# Altium integrated library altera-stratix-iv.IntLib: 38 symbols (part 1 of 21)
Pins are listed as number, name and electrical type; pins without a type are passive.

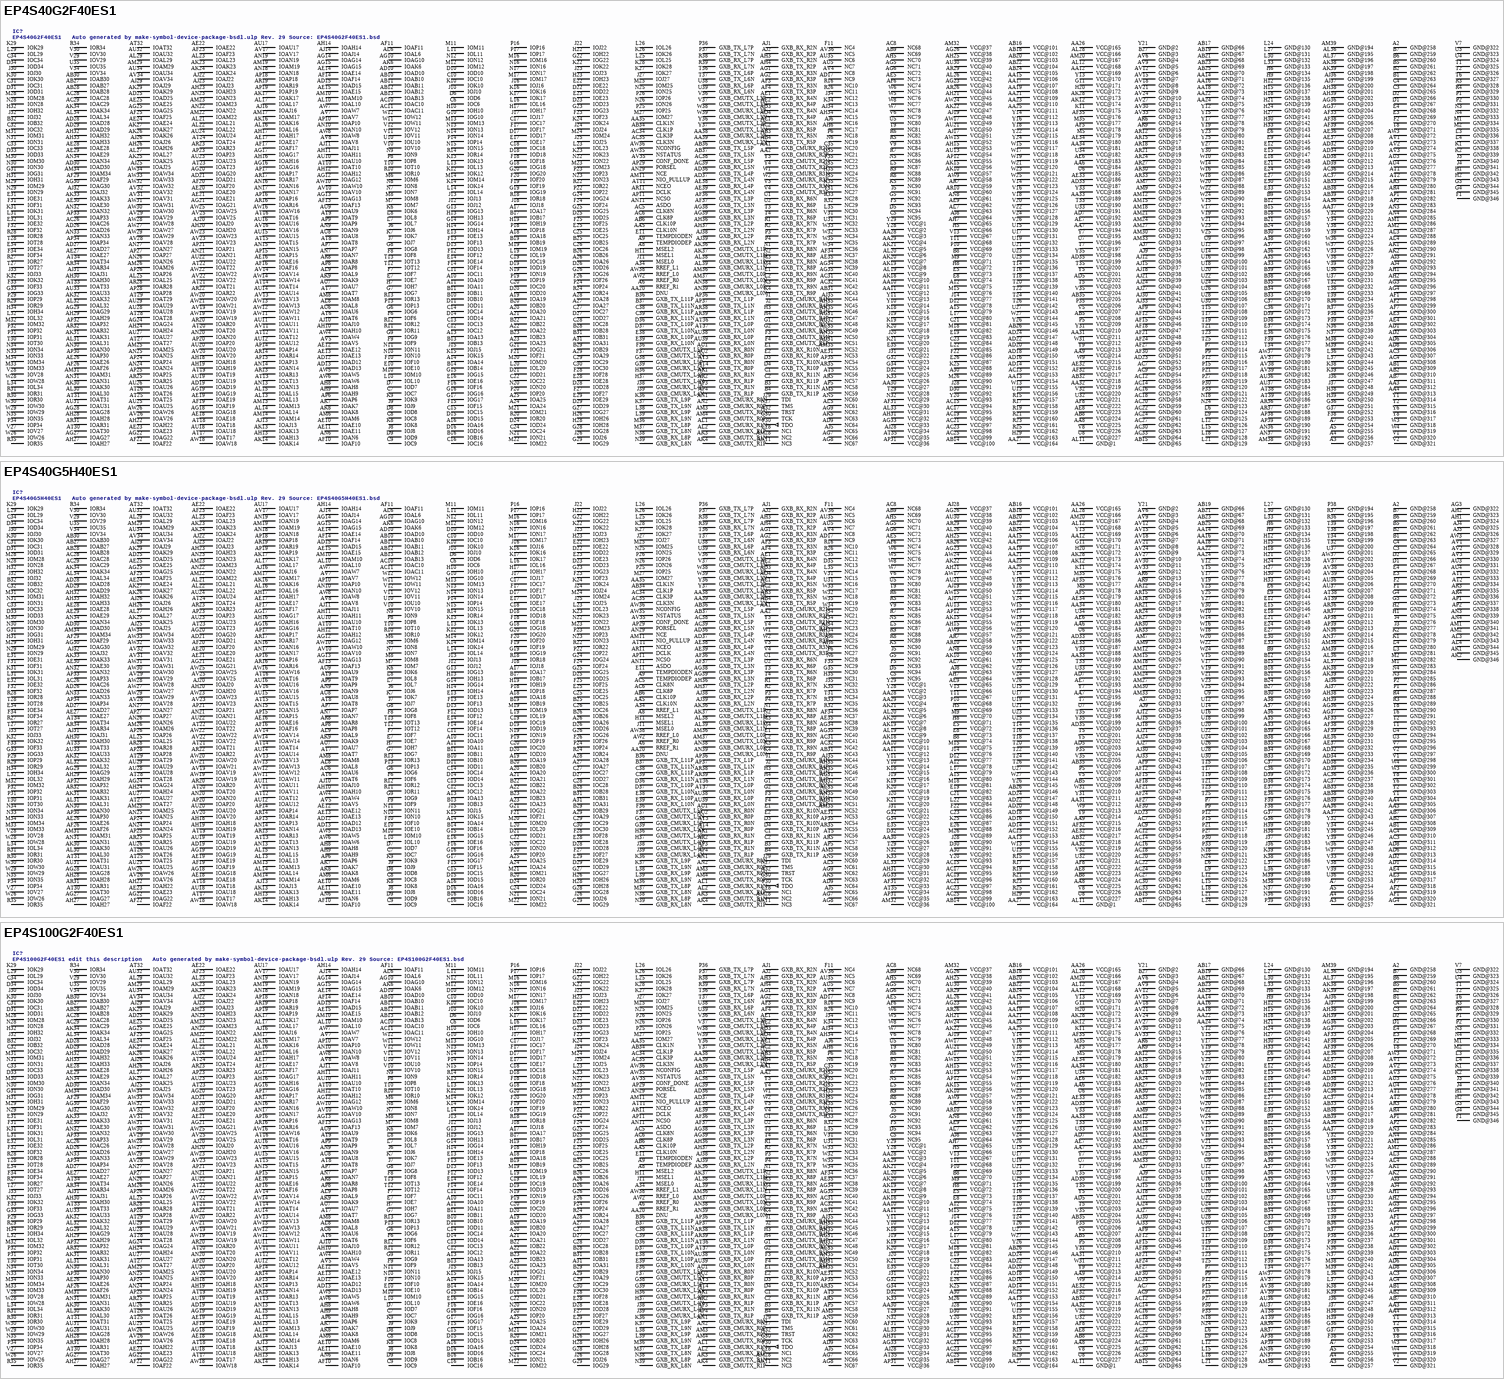
[diagram p0: symbols EP4S40G2F40ES1 to EP4S100G2F40ES1]

## EP4S40G2F40ES1
designator IC?, comment EP4S40G2F40ES1   Auto generated by make-symbol-device-package-bsdl.ulp Rev. 29 Source: EP4S40G2F40ES1.bsd
MPN: EP4S40G2F40C2ES1; OC_FARNELL: unknown; OC_NEWARK: 52R2113
footprint FBGA1517
pins: A2 GND@258 (power), A3 GND@257 (power), A4 GND@256 (power), A5 GND@255 (power), A6 RREF_R1, A7 GND@254 (power), A8 MSEL2, A9 TEMPDIODEP, A10 IOA10, A11 IOA11, A12 VCC@75 (power), A13 IOA13, A14 IOA14, A15 VCC@79 (power), A16 IOA16, A17 IOA17, A18 IOA18, A19 IOA19, A20 IOA20, A21 IOA21, A22 IOA22, A23 IOA23, A24 IOA24, A25 IOA25, A26 IOA26, A27 IOA27, A28 IOA28, A29 IOA29, A30 VCC@89 (power), A31 IOA31, A32 TRST, A33 GND@165 (power), A34 RREF_L1, A35 GND@164 (power), A36 GND@163 (power), A37 GND@162 (power), A38 GND@161 (power), AA1 GXB_CMURX_R2N, AA2 GXB_CMURX_R2P, AA3 GND@312 (power), AA4 GND@313 (power), AA5 CLK10N, AA6 VCC@184 (power), AA7 VCC@194 (power), AA8 VCC@225 (power), AA9 VCC@214 (power), AA10 VCC@11 (power), AA11 VCC@12 (power), AA12 VCC@169 (power), AA13 VCC@154 (power), AA14 GND@71 (power), AA15 VCC@106 (power), AA16 GND@72 (power), AA17 VCC@107 (power), AA18 GND@73 (power), AA19 VCC@108 (power), AA20 DNU, AA21 VCC@109 (power), AA22 GND@74 (power), AA23 VCC@110 (power), AA24 GND@75 (power), AA25 VCC@111 (power), AA26 VCC@165 (power), AA27 VCC@164 (power), AA28 VCC@3 (power), AA29 VCC@4 (power), AA30 VCC@27 (power), AA31 VCC@211 (power), AA32 VCC@219 (power), AA33 VCC@189 (power), AA34 VCC@181 (power), AA35 CLK1N, AA36 GND@219 (power), AA37 GND@220 (power), AA38 GXB_CMURX_L2P, AA39 GXB_CMURX_L2N, AB1 GND@309 (power), AB2 GND@310 (power), AB3 GXB_TX_R5N, AB4 GXB_TX_R5P, AB5 VCC@208 (power), AB6 CLK10P, AB7 GND@311 (power), AB8 VCC@224 (power), AB9 NC69, AB10 IOAB10, AB11 IOAB11, AB12 IOAB12, AB13 IOAB13, AB14 VCC@100 (power), AB15 GND@65 (power), AB16 VCC@101 (power), AB17 GND@66 (power), AB18 VCC@102 (power), AB19 GND@67 (power), AB20 VCC@103 (power), AB21 GND@68 (power), AB22 VCC@104 (power), AB23 GND@69 (power), AB24 VCC@105 (power), AB25 GND@70 (power), AB26 VCC@146 (power), AB27 IOAB27, AB28 IOAB28, AB30 IOAB30, AB31 NC43, AB32 VCC@218 (power), AB33 GND@216 (power), AB34 CLK1P, AB35 VCC@205 (power), AB36 GXB_TX_L5P, AB37 GXB_TX_L5N, AB38 GND@217 (power), AB39 GND@218 (power), AC1 GXB_RX_R5N, AC2 GXB_RX_R5P, AC3 GND@307 (power), AC4 GND@308 (power), AC5 CLK8N, AC6 CLK8P, AC7 GND@53 (power), AC8 NC68, AC9 GND@54 (power), AC10 IOAC10, AC11 IOAC11, AC12 GND@55 (power), AC13 VCC@153 (power), AC14 GND@56 (power), AC15 VCC@94 (power), AC16 GND@57 (power), AC17 VCC@95 (power), AC18 GND@58 (power), AC19 VCC@96 (power), AC20 GND@59 (power), AC21 VCC@97 (power), AC22 GND@60 (power), AC23 VCC@98 (power), AC24 GND@61 (power), AC25 VCC@99 (power), AC26 IOAC26, AC27 GND@62 (power), AC28 IOAC28, AC29 IOAC29, AC30 GND@63 (power), AC31 NC41, AC32 NC42, AC33 GND@64 (power), AC34 CLK3P, AC35 CLK3N, AC36 GND@214 (power), AC37 GND@215 (power), AC38 GXB_RX_L5P, AC39 GXB_RX_L5N, AD1 GND@303 (power), AD2 GND@304 (power), AD3 GXB_TX_R4N, AD4 GXB_TX_R4P, AD5 VCC@202 (power), AD6 GND@305 (power), AD7 VCC@192 (power), AD8 GND@306 (power), AD9 NC64, AD10 IOAD10, AD12 IOAD12, AD13 IOAD13, AD14 VCC@152 (power), AD15 IOAD15, AD16 VCC@151 (power), AD17 NC9, AD18 VCC@150 (power), AD19 IOAD19, AD20 VCC@149 (power), AD21 IOAD21, AD22 VCC@148 (power), AD23 GND@52 (power), AD24 VCC@147 (power), AD25 IOAD25, AD26 IOAD26, AD27 IOAD27, AD28 IOAD28, AD29 IOAD29, AD30 IOAD30, AD31 NC51, AD32 GND@210 (power), AD33 VCC@187 (power), AD34 GND@211 (power), AD35 VCC@199 (power), AD36 GXB_TX_L4P, AD37 GXB_TX_L4N, AD38 GND@212 (power), AD39 GND@213 (power), AE1 GXB_RX_R4N, AE2 GXB_RX_R4P, AE3 GND@301 (power), AE4 GND@302 (power), AE5 NC73, AE6 VCC@183 (power), AE7 VCC@193 (power), AE8 VCC@223 (power), AE9 VCC@62 (power), AE10 IOAE10, AE11 IOAE11, AE12 IOAE12, AE13 IOAE13, AE14 IOAE14, AE15 IOAE15, AE16 IOAE16, AE17 IOAE17, AE18 IOAE18, AE19 IOAE19, AE20 IOAE20, AE21 IOAE21, AE22 IOAE22, AE23 IOAE23, AE24 IOAE24, AE25 IOAE25, AE26 IOAE26, AE27 IOAE27, AE28 IOAE28, AE29 IOAE29, AE30 IOAE30, AE31 NC53, AE32 VCC@216 (power), AE33 VCC@186 (power), AE34 VCC@180 (power), AE35 NC38, AE36 GND@208 (power), AE37 GND@209 (power), AE38 GXB_RX_L4P, AE39 GXB_RX_L4N, AF1 GND@298 (power), AF2 GND@299 (power), AF3 GXB_TX_R3N, AF4 GXB_TX_R3P, AF5 VCC@178 (power), AF6 NC74, AF7 GND@300 (power), AF8 VCC@222 (power), AF9 GND@44 (power), AF10 IOAF10, AF11 IOAF11, AF12 GND@45 (power), AF13 IOAF13, AF14 IOAF14, AF15 GND@46 (power), AF16 IOAF16, AF17 IOAF17, AF18 GND@47 (power), AF19 IOAF19, AF20 IOAF20, AF21 GND@48 (power), AF22 IOAF22, AF23 IOAF23, AF24 GND@49 (power), AF25 IOAF25, AF26 IOAF26, AF27 GND@50 (power), AF29 IOAF29, AF30 GND@51 (power), AF31 VCC@30 (power), AF32 VCC@217 (power), AF33 GND@205 (power), AF34 NC37, AF35 VCC@176 (power), AF36 GXB_TX_L3P, AF37 GXB_TX_L3N, AF38 GND@206 (power), AF39 GND@207 (power), AG1 GXB_RX_R3N, AG2 GXB_RX_R3P, AG3 GND@296 (power), AG4 GND@297 (power), AG5 NC71, AG6 NC72, AG7 NC66, AG8 NC67, AG9 NC62, AG10 IOAG10, AG12 IOAG12, AG13 IOAG13, AG14 IOAG14, AG15 IOAG15, AG16 IOAG16, AG17 IOAG17, AG18 IOAG18, AG19 IOAG19, AG20 IOAG20, AG21 IOAG21, AG22 IOAG22, AG23 VCC@43 (power), AG24 IOAG24, AG25 IOAG25, AG26 VCC@38 (power), AG27 IOAG27, AG28 IOAG28, AG29 IOAG29, AG30 IOAG30, AG31 NC47, AG32 NC48, AG33 VCC@33 (power), AG34 NC39, AG35 NC40, AG36 GND@203 (power), AG37 GND@204 (power), AG38 GXB_RX_L3P, AG39 GXB_RX_L3N, AH1 GND@294 (power), AH2 GND@295 (power), AH3 GXB_TX_R2N, AH4 GXB_TX_R2P, AH5 NC70, AH6 NC17, AH7 VCC@65 (power), AH8 IOAH8, AH9 IOAH9, AH10 IOAH10, AH11 IOAH11, AH12 IOAH12, AH13 IOAH13, AH14 IOAH14, AH15 VCC@53 (power), AH16 IOAH16, AH17 IOAH17, AH18 IOAH18, AH19 IOAH19, AH20 IOAH20, AH21 VCC@45 (power), AH22 IOAH22, AH23 IOAH23, AH24 IOAH24, AH25 VCC@39 (power), AH26 IOAH26, AH27 IOAH27, AH28 IOAH28, AH29 IOAH29, AH30 IOAH30, AH31 VCC@32 (power), AH32 IOAH32, AH33 IOAH33, AH34 NC15, AH35 NC45, AH36 GXB_TX_L2P, AH37 GXB_TX_L2N, AH38 GND@201 (power), AH39 GND@202 (power), AJ1 GXB_RX_R2N, AJ2 GXB_RX_R2P, AJ3 GND@292 (power), AJ4 GND@293 (power), AJ5 NC65, AJ6 NC16, AJ7 GND@34 (power), AJ8 VCC@64 (power), AJ9 GND@35 (power), AJ10 IOAJ10, AJ11 IOAJ11, AJ12 GND@36 (power), AJ13 IOAJ13, AJ14 IOAJ14, AJ15 GND@37 (power), AJ16 IOAJ16, AJ17 VCC@51 (power), AJ18 GND@38 (power), AJ19 VCC@48 (power), AJ20 IOAJ20, AJ21 GND@39 (power), AJ22 IOAJ22, AJ23 IOAJ23, AJ24 GND@40 (power), AJ25 IOAJ25, AJ26 IOAJ26, AJ27 GND@41 (power), AJ28 VCC@34 (power), AJ29 IOAJ29, AJ30 GND@42 (power), AJ31 IOAJ31, AJ32 IOAJ32, AJ33 GND@43 (power), AJ34 NC14, AJ35 NC44, AJ36 GND@199 (power), AJ37 GND@200 (power), AJ38 GXB_RX_L2P, AJ39 GXB_RX_L2N, AK1 GND@290 (power), AK2 GND@291 (power), AK3 GXB_CMUTX_R1N, AK4 GXB_CMUTX_R1P, AK5 NC63, AK6 IOAK6, AK7 IOAK7, AK8 IOAK8, AK9 IOAK9, AK10 VCC@57 (power), AK11 NC3, AK12 VCC@174 (power), AK13 IOAK13, AK14 IOAK14, AK15 VCC@56 (power), AK16 IOAK16, AK17 IOAK17, AK18 VCC@10 (power), AK19 VCC@8 (power), AK20 VCC@7 (power), AK21 VCC@5 (power), AK22 VCC@47 (power), AK23 IOAK23, AK24 IOAK24, AK25 IOAK25, AK26 IOAK26, AK27 IOAK27, AK28 VCC@173 (power), AK29 IOAK29, AK30 IOAK30, AK31 IOAK31, AK32 IOAK32, AK33 IOAK33, AK34 IOAK34, AK35 NC46, AK36 GXB_CMUTX_L1P, AK37 GXB_CMUTX_L1N, AK38 GND@197 (power), AK39 GND@198 (power), AL1 GXB_CMURX_R1N, AL2 GXB_CMURX_R1P, AL3 GND@288 (power), AL4 GND@289 (power), AL5 NC61, AL6 IOAL6, AL7 VCC@63 (power), AL8 IOAL8, AL9 IOAL9, AL10 IOAL10, AL11 GND@1 (power), AL12 VCC@168 (power), AL13 IOAL13, AL14 IOAL14, AL15 IOAL15, AL16 IOAL16, AL17 IOAL17, AL19 VCC@9 (power), AL20 VCC@6 (power), AL21 IOAL21, AL22 IOAL22, AL23 IOAL23, AL25 IOAL25, AL26 VCC@42 (power), AL27 IOAL27, AL28 VCC@166 (power), AL29 IOAL29, AL30 IOAL30, AL31 IOAL31, AL32 IOAL32, AL33 VCC@31 (power), AL34 IOAL34, AL35 NC49, AL36 GND@195 (power), AL37 GND@196 (power), AL38 GXB_CMURX_L1P, AL39 GXB_CMURX_L1N, AM1 GND@286 (power), AM2 GND@287 (power), AM3 GXB_CMUTX_R0N, AM4 GXB_CMUTX_R0P, AM5 NC59, AM6 IOAM6, AM7 GND@24 (power), AM8 IOAM8, AM9 GND@25 (power), AM10 IOAM10, AM11 NIO_PULLUP, AM12 GND@26 (power), AM13 IOAM13, AM14 IOAM14, AM15 GND@27 (power), AM17 IOAM17, AM18 GND@28 (power), AM19 IOAM19, AM20 VCC@167 (power), AM21 GND@29 (power), AM22 IOAM22, AM23 IOAM23, AM24 GND@30 (power), AM25 IOAM25, AM26 IOAM26, AM27 GND@31 (power), AM28 NC2, AM29 IOAM29, AM30 GND@32 (power), AM31 IOAM31, AM32 VCC@37 (power), AM33 GND@33 (power), AM34 IOAM34, AM35 NC52, AM36 GXB_CMUTX_L0P, AM37 GXB_CMUTX_L0N, AM38 GND@193 (power), AM39 GND@194 (power), AN1 GXB_CMURX_R0N, AN2 GXB_CMURX_R0P, AN3 GND@284 (power), AN4 GND@285 (power), AN5 NC60, AN6 IOAN6, AN7 IOAN7, AN8 VCC@61 (power), AN9 IOAN9, AN10 IOAN10, AN11 ASDO, AN13 IOAN13, AN14 IOAN14, AN15 IOAN15, AN16 IOAN16, AN17 IOAN17, AN18 IOAN18, AN19 IOAN19, AN20 IOAN20, AN21 IOAN21, AN22 IOAN22, AN23 IOAN23, AN24 IOAN24, AN25 IOAN25, AN26 IOAN26, AN27 IOAN27, AN29 NCE, AN30 IOAN30, AN31 IOAN31, AN32 IOAN32, AN33 IOAN33, AN34 IOAN34, AN35 NC50, AN36 GND@191 (power), AN37 GND@192 (power), AN38 GXB_CMURX_L0P, AN39 GXB_CMURX_L0N, AP1 GND@282 (power), AP2 GND@283 (power), AP3 GXB_TX_R1N, AP4 GXB_TX_R1P, AP5 NC58, AP6 IOAP6, AP7 IOAP7, AP8 IOAP8, AP9 IOAP9, AP10 IOAP10, AP11 NCSO, AP12 VCC@55 (power), AP13 IOAP13, AP14 IOAP14, AP15 IOAP15, AP16 IOAP16, AP17 IOAP17, AP18 IOAP18, AP19 IOAP19, AP20 IOAP20, AP21 IOAP21, AP23 IOAP23, AP24 IOAP24, AP25 IOAP25, AP26 IOAP26, AP27 IOAP27, AP28 IOAP28, AP29 PORSEL, AP30 IOAP30, AP31 VCC@36 (power), AP32 IOAP32, AP33 IOAP33, AP34 IOAP34, AP35 NC54, AP36 GXB_TX_L1P, AP37 GXB_TX_L1N, AP38 GND@189 (power), AP39 GND@190 (power), AR1 GXB_RX_R1N, AR2 GXB_RX_R1P, AR3 GND@280 (power), AR4 GND@281 (power), AR5 NC57, AR6 GND@14 (power), AR7 VCC@59 (power), AR8 IOAR8, AR9 GND@15 (power), AR10 VCC@60 (power), AR11 DCLK, AR12 GND@16 (power), AR13 IOAR13, AR14 IOAR14, AR15 GND@17 (power), AR16 IOAR16, AR17 IOAR17, AR18 GND@18 (power), AR19 IOAR19, AR20 IOAR20, AR21 GND@19 (power), AR22 IOAR22, AR23 IOAR23, AR24 GND@20 (power), AR25 IOAR25, AR26 VCC@44 (power), AR27 GND@21 (power), AR28 IOAR28, AR29 VCC@41 (power), AR30 GND@22 (power), AR31 IOAR31, AR32 IOAR32, AR33 GND@23 (power), AR34 IOAR34, AR35 NC55, AR36 GND@187 (power), AR37 GND@188 (power), AR38 GXB_RX_L1P, AR39 GXB_RX_L1N, AT1 GND@278 (power), AT2 GND@279 (power), AT3 GXB_TX_R0N, AT4 GXB_TX_R0P, AT5 NC56, AT6 IOAT6, AT7 IOAT7, AT8 IOAT8, AT9 IOAT9, AT10 IOAT10, AT11 NCEO, AT12 IOAT12, AT13 IOAT13, AT14 IOAT14, AT15 IOAT15, AT16 IOAT16, AT17 IOAT17, AT18 IOAT18, AT19 IOAT19, AT20 IOAT20, AT21 IOAT21, AT22 IOAT22, AT23 IOAT23, AT24 IOAT24, AT25 IOAT25, AT26 IOAT26, AT27 IOAT27, AT28 IOAT28, AT29 IOAT29, AT30 IOAT30, AT31 IOAT31, AT32 IOAT32, AT33 IOAT33, AT34 IOAT34, AT35 VCC@35 (power), AT36 GXB_TX_L0P, AT37 GXB_TX_L0N, AT38 GND@185 (power), AT39 GND@186 (power), AU1 GXB_RX_R0N, AU2 GXB_RX_R0P, AU3 GND@276 (power), AU4 GND@277 (power), AU5 NC7, AU6 IOAU6, AU7 IOAU7, AU8 IOAU8, AU9 IOAU9, AU10 IOAU10, AU11 IOAU11, AU12 IOAU12, AU13 VCC@54 (power), AU14 IOAU14, AU15 IOAU15, AU16 IOAU16, AU17 IOAU17, AU18 IOAU18, AU19 IOAU19, AU20 IOAU20, AU21 VCC@50 (power), AU22 IOAU22, AU23 IOAU23, AU24 IOAU24, AU25 IOAU25, AU26 IOAU26, AU27 IOAU27, AU28 IOAU28, AU29 IOAU29, AU30 VCC@40 (power), AU31 IOAU31, AU32 IOAU32, AU33 IOAU33, AU34 IOAU34, AU35 NC6, AU36 GND@183 (power), AU37 GND@184 (power), AU38 GXB_RX_L0P, AU39 GXB_RX_L0N, AV1 GND@273 (power), AV2 GND@274 (power), AV3 GND@275 (power), AV4 NC8, AV5 IOAV5, AV6 GND@4 (power), AV7 IOAV7, AV8 IOAV8, AV9 GND@5 (power), AV10 IOAV10, AV11 IOAV11, AV12 GND@6 (power), AV13 IOAV13, AV14 IOAV14, AV15 GND@7 (power), AV16 IOAV16, AV17 IOAV17, AV18 GND@8 (power), AV19 IOAV19, AV20 IOAV20, AV21 GND@9 (power), AV22 IOAV22, AV23 IOAV23, AV24 GND@10 (power), AV25 IOAV25, AV26 IOAV26, AV27 GND@11 (power), AV28 IOAV28, AV29 IOAV29, AV30 GND@12 (power), AV31 IOAV31, AV32 IOAV32, AV33 GND@13 (power), AV34 IOAV34, AV35 CONF_DONE, AV36 NC5, AV37 GND@180 (power), AV38 GND@181 (power), AV39 GND@182 (power), AW2 RREF_R0, AW3 GND@272 (power), AW4 IOAW4, AW5 IOAW5, AW6 IOAW6, AW7 IOAW7, AW8 IOAW8, AW9 VCC@58 (power), AW10 IOAW10, AW11 IOAW11, AW12 IOAW12, AW13 IOAW13, AW14 IOAW14, AW15 VCC@52 (power), AW16 IOAW16, AW17 VCC@49 (power), AW18 IOAW18, AW19 IOAW19, AW20 IOAW20, AW21 IOAW21, AW22 IOAW22, AW23 IOAW23, AW24 VCC@46 (power), AW25 IOAW25, AW26 IOAW26, AW27 IOAW27, AW28 IOAW28, AW29 IOAW29, AW30 IOAW30, AW31 IOAW31, AW32 IOAW32, AW33 IOAW33, AW34 IOAW34, AW35 NSTATUS, AW36 NCONFIG, AW37 GND@179 (power), AW38 RREF_L0, B1 GND@263 (power), B2 GND@262 (power), B3 GXB_TX_R11N, B4 GXB_TX_R11P, B5 GND@261 (power), B6 GND@260 (power), B7 GND@259 (power), B8 VCC@70 (power), B9 GND@154 (power), B10 IOB10, B11 IOB11, B12 GND@155 (power), B13 IOB13, B14 IOB14, B15 GND@156 (power), B16 IOB16, B17 IOB17, B18 GND@157 (power), B19 IOB19, B20 IOB20, B21 GND@158 (power), B22 IOB22, B23 IOB23, B24 GND@159 (power), B25 IOB25, B26 IOB26, B27 GND@3 (power), B28 IOB28, B29 IOB29, B30 GND@160 (power), B31 IOB31, B32 IOB32, B33 GND@170 (power), B34 GND@169 (power), B35 GND@168 (power), B36 GXB_TX_L11P, B37 GXB_TX_L11N, B38 GND@167 (power), B39 GND@166 (power), C1 GXB_RX_R11N, C2 GXB_RX_R11P, C3 GND@265 (power), C4 GND@264 (power), C5 NC95, C6 IOC6, C7 IOC7, C8 IOC8, C9 IOC9, C10 IOC10, C11 IOC11, C12 IOC12, C13 IOC13, C14 IOC14, C15 IOC15, C16 IOC16, C17 IOC17, C18 IOC18, C19 IOC19, C20 IOC20, C21 VCC@81 (power), C22 IOC22, C23 VCC@84 (power), C24 IOC24, C25 IOC25, C26 IOC26, C27 IOC27, C28 IOC28, C29 IOC29, C30 IOC30, C31 IOC31, C32 IOC32, C33 IOC33, C34 IOC34, C35 NC20, C36 GND@172 (power), C37 GND@171 (power), C38 GXB_RX_L11P, C39 GXB_RX_L11N, D1 GND@267 (power), D2 GND@266 (power), D3 GXB_TX_R10N, D4 GXB_TX_R10P, D5 NC94, D6 IOD6, D7 IOD7, D8 IOD8, D9 IOD9, D10 IOD10, D11 IOD11, D12 VCC@78 (power), D13 IOD13, D14 IOD14, D15 IOD15, D16 IOD16, D17 IOD17, D18 IOD18, D19 IOD19, D20 IOD20, D21 IOD21, D22 IOD22, D23 IOD23, D24 IOD24, D25 IOD25, D26 IOD26, D27 IOD27, D28 IOD28, D29 IOD29, D30 VCC@92 (power), D31 IOD31, D32 VCC@25 (power), D33 IOD33, D34 IOD34, D35 NC21, D36 GXB_TX_L10P, D37 GXB_TX_L10N, D38 GND@174 (power), D39 GND@173 (power), E1 GXB_RX_R10N, E2 GXB_RX_R10P, E3 GND@269 (power), E4 GND@268 (power), E5 VCC@73 (power), E6 GND@144 (power), E7 IOE7, E8 VCC@74 (power), E9 GND@145 (power), E10 IOE10, E11 TEMPDIODEN, E12 GND@146 (power), E13 IOE13, E14 IOE14, E15 GND@147 (power), E16 IOE16, E17 IOE17, E18 GND@148 (power), E19 VCC@83 (power), E21 GND@149 (power), E22 IOE22, E23 IOE23, E24 GND@150 (power), E25 IOE25, E26 VCC@87 (power), E27 GND@151 (power), E28 IOE28, E29 IOE29, E30 GND@152 (power), E31 IOE31, E32 IOE32, E33 GND@153 (power), E34 IOE34, E35 VCC@21 (power), E36 GND@176 (power), E37 GND@175 (power), E38 GXB_RX_L10P, E39 GXB_RX_L10N, F1 GND@346 (power), F2 GND@270 (power), F3 GXB_CMUTX_R5N, F4 GXB_CMUTX_R5P, F5 NC93, F6 IOF6, F7 IOF7, F8 IOF8, F9 IOF9, F10 IOF10, F11 NC4, F12 IOF12, F13 IOF13, F14 IOF14, F15 IOF15, F16 IOF16, F17 IOF17, F18 IOF18, F19 IOF19, F20 IOF20, F21 IOF21, F22 VCC@86 (power), F23 IOF23, F24 IOF24, F25 IOF25, F26 IOF26, F27 IOF27, F28 IOF28, F30 TDO (out), F31 IOF31, F32 IOF32, F33 IOF33, F34 IOF34, F35 NC22, F36 GXB_CMUTX_L5P, F37 GXB_CMUTX_L5N, F38 GND@253 (power), F39 GND@177 (power), G1 GXB_CMURX_R5N, G2 GXB_CMURX_R5P, G3 GND@344 (power), G4 GND@345 (power), G5 NC92, G6 IOG6, G7 IOG7, G8 IOG8, G9 IOG9, G10 IOG10, G11 VCC@171 (power), G13 IOG13, G14 IOG14, G15 IOG15, G16 IOG16, G17 IOG17, G18 IOG18, G19 IOG19, G20 IOG20, G21 IOG21, G22 IOG22, G23 IOG23, G24 IOG24, G25 IOG25, G26 IOG26, G27 IOG27, G28 IOG28, G29 IOG29, G30 TCK, G31 IOG31, G32 VCC@23 (power), G33 IOG33, G34 VCC@24 (power), G35 NC23, G36 GND@251 (power), G37 GND@252 (power), G38 GXB_CMURX_L5P, G39 GXB_CMURX_L5N, H1 GND@342 (power), H2 GND@343 (power), H3 GXB_CMUTX_R4N, H4 GXB_CMUTX_R4P, H5 VCC@66 (power), H6 GND@134 (power), H7 IOH7, H8 VCC@72 (power), H9 GND@135 (power), H10 IOH10, H11 MSEL1, H12 GND@136 (power), H13 IOH13, H14 IOH14, H15 GND@137 (power), H17 IOH17, H18 GND@138 (power), H19 IOH19, H20 VCC@172 (power), H21 GND@139 (power), H22 IOH22, H23 IOH23, H24 GND@140 (power), H26 IOH26, H27 GND@141 (power), H28 IOH28, H29 VCC@163 (power), H30 GND@142 (power), H31 IOH31, H32 IOH32, H33 GND@143 (power), H34 IOH34, H35 NC24, H36 GXB_CMUTX_L4P, H37 GXB_CMUTX_L4N, H38 GND@249 (power), H39 GND@250 (power), J1 GXB_CMURX_R4N, J2 GXB_CMURX_R4P, J3 GND@340 (power), J4 GND@341 (power), J5 NC91, J6 IOJ6, J7 IOJ7, J8 IOJ8, J9 IOJ9, J10 IOJ10, J11 MSEL0, J12 IOJ12, J13 IOJ13, J14 VCC@77 (power), J15 IOJ15, J16 IOJ16, J17 IOJ17, J18 IOJ18, J19 VCC@16 (power), J20 VCC@19 (power), J22 IOJ22, J23 IOJ23, J24 IOJ24, J25 IOJ25, J26 IOJ26, J27 IOJ27, J28 VCC@91 (power), J29 TDI, J30 IOJ30, J31 VCC@22 (power), J32 IOJ32, J33 IOJ33, J34 NC12, J35 NC25, J36 GND@247 (power), J37 GND@248 (power), J38 GXB_CMURX_L4P, J39 GXB_CMURX_L4N, K1 GND@338 (power), K2 GND@339 (power), K3 GXB_TX_R9N, K4 GXB_TX_R9P, K5 NC90, K6 IOK6, K7 IOK7, K8 IOK8, K9 IOK9, K10 IOK10, K11 VCC@175 (power), K12 IOK12, K13 IOK13, K14 IOK14, K15 IOK15, K16 IOK16, K17 IOK17, K18 VCC@15 (power), K19 VCC@17 (power), K20 VCC@18 (power), K21 VCC@20 (power), K22 IOK22, K23 IOK23, K24 IOK24, K25 VCC@88 (power), K26 IOK26, K27 IOK27, K28 IOK28, K29 IOK29, K30 IOK30, K31 IOK31, K32 IOK32, K33 VCC@26 (power), K34 NC13, K35 NC26, K36 GXB_TX_L9P, K37 GXB_TX_L9N, K38 GND@245 (power), K39 GND@246 (power), L1 GXB_RX_R9N, L2 GXB_RX_R9P, L3 GND@336 (power), L4 GND@337 (power), L5 NC87, L6 GND@124 (power), L7 IOL7, L8 IOL8, L9 GND@125 (power), L10 IOL10, L11 IOL11, L12 GND@126 (power), L13 IOL13, L14 IOL14, L15 GND@127 (power), L16 IOL16, L17 VCC@80 (power), L18 GND@128 (power), L19 IOL19, L20 IOL20, L21 GND@129 (power), L22 VCC@85 (power), L23 IOL23, L24 GND@130 (power), L25 IOL25, L26 IOL26, L27 GND@131 (power), L28 NC1, L29 IOL29, L30 GND@132 (power), L31 IOL31, L32 IOL32, L33 GND@133 (power), L34 IOL34, L35 NC30, L36 GND@243 (power), L37 GND@244 (power), L38 GXB_RX_L9P, L39 GXB_RX_L9N, M1 GND@334 (power), M2 GND@335 (power), M3 GXB_TX_R8N, M4 GXB_TX_R8P, M5 VCC@179 (power), M6 IOM6, M7 IOM7, M8 IOM8, M9 VCC@71 (power), M10 IOM10, M11 IOM11, M12 IOM12, M13 IOM13, M14 IOM14, M15 VCC@76 (power), M16 IOM16, M17 IOM17, M18 VCC@82 (power), M19 IOM19, M20 IOM20, M21 IOM21, M22 IOM22, M23 IOM23, M24 IOM24, M25 IOM25, M26 VCC@90 (power), M27 IOM27, M28 IOM28, M29 IOM29, M30 IOM30, M31 IOM31, M32 IOM32, M33 IOM33, M34 IOM34, M35 VCC@177 (power), M36 GXB_TX_L8P, M37 GXB_TX_L8N, M38 GND@241 (power), M39 GND@242 (power), N1 GXB_RX_R8N, N2 GXB_RX_R8P, N3 GND@332 (power), N4 GND@333 (power), N5 NC86, N6 NC19, N7 ION7, N8 ION8, N9 ION9, N10 ION10, N11 ION11, N12 ION12, N13 ION13, N14 ION14, N15 ION15, N16 ION16, N17 ION17, N18 GND@122 (power), N19 ION19, N20 ION20, N21 ION21, N22 ION22, N23 ION23, N24 GND@123 (power), N25 ION25, N26 ION26, N27 TMS, N28 ION28, N29 ION29, N30 ION30, N31 ION31, N32 VCC@29 (power), N33 ION33, N34 ION34, N35 ION35, N36 GND@239 (power), N37 GND@240 (power), N38 GXB_RX_L8P, N39 GXB_RX_L8N, P1 GND@330 (power), P2 GND@331 (power), P3 GXB_TX_R7N, P4 GXB_TX_R7P, P5 VCC@209 (power), P6 NC18, P7 GND@114 (power), P8 IOP8, P9 GND@115 (power), P10 VCC@69 (power), P12 GND@116 (power), P13 IOP13, P14 IOP14, P15 GND@117 (power), P16 IOP16, P17 IOP17, P18 IOP18, P19 IOP19, P20 IOP20, P21 GND@118 (power), P22 IOP22, P23 IOP23, P24 IOP24, P25 IOP25, P26 IOP26, P27 GND@119 (power), P29 IOP29, P30 GND@120 (power), P31 IOP31, P32 IOP32, P33 GND@121 (power), P34 IOP34, P35 VCC@206 (power), P36 GXB_TX_L7P, P37 GXB_TX_L7N, P38 GND@237 (power), P39 GND@238 (power), R1 GXB_RX_R7N, R2 GXB_RX_R7P, R3 GND@328 (power), R4 GND@329 (power), R5 NC83, R6 NC82, R7 NC85, R8 NC89, R9 NC88, R10 IOR10, R11 IOR11, R12 IOR12, R13 IOR13, R14 IOR14, R15 VCC@157 (power), R16 NC10, R17 VCC@158 (power), R18 IOR18, R19 VCC@159 (power), R20 IOR20, R21 VCC@160 (power), R22 IOR22, R23 VCC@161 (power), R24 IOR24, R25 VCC@162 (power), R26 NC11, R27 IOR27, R28 IOR28, R29 IOR29, R30 IOR30, R31 IOR31, R32 NC29, R33 NC28, R34 IOR34, R35 IOR35, R36 GND@235 (power), R37 GND@236 (power), R38 GXB_RX_L7P, R39 GXB_RX_L7N, T1 GND@325 (power), T2 GND@326 (power), T3 GXB_TX_R6N, T4 GXB_TX_R6P, T5 VCC@203 (power), T6 GND@327 (power), T7 VCC@197 (power), T8 GND@271 (power), T9 NC81, T10 IOT10, T11 VCC@68 (power), T12 IOT12, T13 IOT13, T14 VCC@136 (power), T15 GND@108 (power), T16 VCC@137 (power), T17 GND@109 (power), T18 VCC@138 (power), T19 GND@110 (power), T20 VCC@139 (power), T21 GND@111 (power), T22 VCC@140 (power), T23 GND@112 (power), T24 VCC@141 (power), T25 GND@113 (power), T26 VCC@142 (power), T27 IOT27, T28 IOT28, T29 VCC@28 (power), T30 IOT30, T31 NC27, T32 GND@232 (power), T33 VCC@190 (power), T34 GND@178 (power), T35 VCC@200 (power), T36 GXB_TX_L6P, T37 GXB_TX_L6N, T38 GND@233 (power), T39 GND@234 (power), U1 GXB_RX_R6N, U2 GXB_RX_R6P, U3 GND@323 (power), U4 GND@324 (power), U5 NC80, U6 VCC@185 (power), U7 VCC@196 (power), U8 VCC@227 (power), U9 GND@97 (power), U10 IOU10, U12 GND@98 (power), U13 VCC@156 (power), U14 GND@99 (power), U15 VCC@130 (power), U16 GND@100 (power), U17 VCC@131 (power), U18 GND@101 (power), U19 VCC@132 (power), U20 GND@102 (power), U21 VCC@133 (power), U22 GND@103 (power), U23 VCC@134 (power), U24 GND@104 (power), U25 VCC@135 (power), U26 GND@105 (power), U27 VCC@143 (power), U28 GND@106 (power), U30 GND@107 (power), U31 NC32, U32 VCC@221 (power), U33 VCC@191 (power), U34 VCC@182 (power), U35 IOU35, U36 GND@230 (power), U37 GND@231 (power), U38 GXB_RX_L6P, U39 GXB_RX_L6N, V1 GND@320 (power), V2 GND@321 (power), V3 GXB_CMUTX_R3N, V4 GXB_CMUTX_R3P, V5 VCC@207 (power), V6 NC79, V7 GND@322 (power), V8 VCC@226 (power), V9 NC84, V10 IOV10, V11 IOV11, V12 IOV12, V13 VCC@67 (power), V14 VCC@123 (power), V15 GND@91 (power), V16 VCC@124 (power), V17 GND@92 (power), V18 VCC@125 (power), V19 GND@93 (power), V20 VCC@126 (power), V21 GND@94 (power), V22 VCC@127 (power), V23 GND@95 (power), V24 VCC@128 (power), V25 GND@96 (power), V26 VCC@129 (power), V27 IOV27, V28 IOV28, V29 IOV29, V30 IOV30, V31 NC31, V32 VCC@220 (power), V33 GND@227 (power), V34 IOV34, V35 VCC@204 (power), V36 GXB_CMUTX_L3P, V37 GXB_CMUTX_L3N, V38 GND@228 (power), V39 GND@229 (power), W1 GXB_CMURX_R3N, W2 GXB_CMURX_R3P, W3 GND@318 (power), W4 GND@319 (power), W5 NC76, W6 NC75, W7 NC78, W8 NC77, W9 VCC@215 (power), W10 GND@84 (power), W11 IOW11, W12 IOW12, W13 VCC@155 (power), W14 GND@85 (power), W15 VCC@117 (power), W16 GND@86 (power), W17 VCC@118 (power), W18 GND@87 (power), W19 VCC@119 (power), W20 GND@88 (power), W21 VCC@120 (power), W22 GND@89 (power), W23 VCC@121 (power), W24 GND@90 (power), W25 VCC@122 (power), W26 IOW26, W27 VCC@144 (power), W28 IOW28, W29 IOW29, W30 IOW30, W31 VCC@212 (power), W32 NC34, W33 NC33, W34 NC36, W35 NC35, W36 GND@225 (power), W37 GND@226 (power), W38 GXB_CMURX_L3P, W39 GXB_CMURX_L3N, Y1 GND@314 (power), Y2 GND@315 (power), Y3 GXB_CMUTX_R2N, Y4 GXB_CMUTX_R2P, Y5 VCC@201 (power), Y6 GND@316 (power), Y7 VCC@195 (power), Y8 GND@317 (power), Y9 VCC@213 (power), Y10 VCC@14 (power), Y11 VCC@13 (power), Y12 GND@76 (power), Y13 VCC@170 (power), Y14 VCC@112 (power), Y15 GND@77 (power), Y16 VCC@113 (power), Y17 GND@78 (power), Y18 VCC@114 (power), Y19 GND@79 (power), Y20 VCC@93 (power), Y21 GND@2 (power), Y22 VCC@115 (power), Y23 GND@80 (power), Y24 VCC@116 (power), Y25 GND@81 (power), Y26 VCC@145 (power), Y27 GND@82 (power), Y28 VCC@2 (power), Y29 VCC@1 (power), Y30 GND@83 (power), Y31 VCC@210 (power), Y32 GND@221 (power), Y33 VCC@188 (power), Y34 GND@222 (power), Y35 VCC@198 (power), Y36 GXB_CMUTX_L2P, Y37 GXB_CMUTX_L2N, Y38 GND@223 (power), Y39 GND@224 (power)

## EP4S40G5H40ES1
designator IC?, comment EP4S40G5H40ES1   Auto generated by make-symbol-device-package-bsdl.ulp Rev. 29 Source: EP4S40G5H40ES1.bsd
MPN: EP4S40G5H40C2ES1; OC_FARNELL: unknown; OC_NEWARK: 52R2121
footprint FBGA1517
pins: A2 GND@258 (power), A3 GND@257 (power), A4 GND@256 (power), A5 GND@255 (power), A6 RREF_R1, A7 GND@254 (power), A8 MSEL2, A9 TEMPDIODEP, A10 IOA10, A11 IOA11, A12 VCC@78 (power), A13 IOA13, A14 IOA14, A15 VCC@80 (power), A16 IOA16, A17 IOA17, A18 IOA18, A19 IOA19, A20 IOA20, A21 IOA21, A22 IOA22, A23 IOA23, A24 IOA24, A25 IOA25, A26 IOA26, A27 IOA27, A28 IOA28, A29 IOA29, A30 VCC@92 (power), A31 IOA31, A32 TRST, A33 GND@165 (power), A34 RREF_L1, A35 GND@164 (power), A36 GND@163 (power), A37 GND@162 (power), A38 GND@161 (power), AA1 GXB_CMURX_R2N, AA2 GXB_CMURX_R2P, AA3 GND@306 (power), AA4 GND@305 (power), AA5 CLK10N, AA6 VCC@184 (power), AA7 VCC@195 (power), AA8 VCC@225 (power), AA9 VCC@215 (power), AA10 VCC@11 (power), AA11 VCC@12 (power), AA12 VCC@170 (power), AA13 VCC@154 (power), AA14 GND@70 (power), AA15 VCC@106 (power), AA16 GND@71 (power), AA17 VCC@107 (power), AA18 GND@72 (power), AA19 VCC@108 (power), AA20 DNU, AA21 VCC@109 (power), AA22 GND@73 (power), AA23 VCC@110 (power), AA24 GND@74 (power), AA25 VCC@111 (power), AA26 VCC@165 (power), AA27 VCC@164 (power), AA28 VCC@3 (power), AA29 VCC@4 (power), AA30 VCC@26 (power), AA31 VCC@212 (power), AA32 VCC@219 (power), AA33 VCC@189 (power), AA34 VCC@181 (power), AA35 CLK1N, AA36 GND@242 (power), AA37 GND@243 (power), AA38 GXB_CMURX_L2P, AA39 GXB_CMURX_L2N, AB1 GND@309 (power), AB2 GND@308 (power), AB3 GXB_TX_R5N, AB4 GXB_TX_R5P, AB5 VCC@209 (power), AB6 CLK10P, AB7 GND@307 (power), AB8 VCC@224 (power), AB9 NC69, AB10 IOAB10, AB11 IOAB11, AB12 IOAB12, AB13 IOAB13, AB14 VCC@100 (power), AB15 GND@64 (power), AB16 VCC@101 (power), AB17 GND@65 (power), AB18 VCC@102 (power), AB19 GND@66 (power), AB20 VCC@103 (power), AB21 GND@67 (power), AB22 VCC@104 (power), AB23 GND@68 (power), AB24 VCC@105 (power), AB25 GND@69 (power), AB26 VCC@146 (power), AB27 IOAB27, AB28 IOAB28, AB30 IOAB30, AB31 NC43, AB32 VCC@218 (power), AB33 GND@239 (power), AB34 CLK1P, AB35 VCC@206 (power), AB36 GXB_TX_L5P, AB37 GXB_TX_L5N, AB38 GND@240 (power), AB39 GND@241 (power), AC1 GXB_RX_R5N, AC2 GXB_RX_R5P, AC3 GND@311 (power), AC4 GND@310 (power), AC5 CLK8N, AC6 CLK8P, AC7 GND@52 (power), AC8 NC68, AC9 GND@53 (power), AC10 IOAC10, AC11 IOAC11, AC12 GND@54 (power), AC13 VCC@153 (power), AC14 GND@55 (power), AC15 VCC@94 (power), AC16 GND@56 (power), AC17 VCC@95 (power), AC18 GND@57 (power), AC19 VCC@96 (power), AC20 GND@58 (power), AC21 VCC@97 (power), AC22 GND@59 (power), AC23 VCC@98 (power), AC24 GND@60 (power), AC25 VCC@99 (power), AC26 IOAC26, AC27 GND@61 (power), AC28 IOAC28, AC29 IOAC29, AC30 GND@62 (power), AC31 NC41, AC32 NC42, AC33 GND@63 (power), AC34 CLK3P, AC35 CLK3N, AC36 GND@237 (power), AC37 GND@238 (power), AC38 GXB_RX_L5P, AC39 GXB_RX_L5N, AD1 GND@315 (power), AD2 GND@314 (power), AD3 GXB_TX_R4N, AD4 GXB_TX_R4P, AD5 VCC@203 (power), AD6 GND@313 (power), AD7 VCC@192 (power), AD8 GND@312 (power), AD9 NC64, AD10 IOAD10, AD12 IOAD12, AD13 IOAD13, AD14 VCC@152 (power), AD15 IOAD15, AD16 VCC@151 (power), AD17 NC9, AD18 VCC@150 (power), AD19 IOAD19, AD20 VCC@149 (power), AD21 IOAD21, AD22 VCC@148 (power), AD23 GND@51 (power), AD24 VCC@147 (power), AD25 IOAD25, AD26 IOAD26, AD27 IOAD27, AD28 IOAD28, AD29 IOAD29, AD30 IOAD30, AD31 NC51, AD32 GND@233 (power), AD33 VCC@186 (power), AD34 GND@234 (power), AD35 VCC@200 (power), AD36 GXB_TX_L4P, AD37 GXB_TX_L4N, AD38 GND@235 (power), AD39 GND@236 (power), AE1 GXB_RX_R4N, AE2 GXB_RX_R4P, AE3 GND@317 (power), AE4 GND@316 (power), AE5 NC73, AE6 VCC@183 (power), AE7 VCC@193 (power), AE8 VCC@223 (power), AE9 VCC@65 (power), AE10 IOAE10, AE11 IOAE11, AE12 IOAE12, AE13 IOAE13, AE14 IOAE14, AE15 IOAE15, AE16 IOAE16, AE17 IOAE17, AE18 IOAE18, AE19 IOAE19, AE20 IOAE20, AE21 IOAE21, AE22 IOAE22, AE23 IOAE23, AE24 IOAE24, AE25 IOAE25, AE26 IOAE26, AE27 IOAE27, AE28 IOAE28, AE29 IOAE29, AE30 IOAE30, AE31 NC53, AE32 VCC@217 (power), AE33 VCC@187 (power), AE34 VCC@180 (power), AE35 NC38, AE36 GND@231 (power), AE37 GND@232 (power), AE38 GXB_RX_L4P, AE39 GXB_RX_L4N, AF1 GND@320 (power), AF2 GND@319 (power), AF3 GXB_TX_R3N, AF4 GXB_TX_R3P, AF5 VCC@179 (power), AF6 NC74, AF7 GND@318 (power), AF8 VCC@222 (power), AF9 GND@43 (power), AF10 IOAF10, AF11 IOAF11, AF12 GND@44 (power), AF13 IOAF13, AF14 IOAF14, AF15 GND@45 (power), AF16 IOAF16, AF17 IOAF17, AF18 GND@46 (power), AF19 IOAF19, AF20 IOAF20, AF21 GND@47 (power), AF22 IOAF22, AF23 IOAF23, AF24 GND@48 (power), AF25 IOAF25, AF26 IOAF26, AF27 GND@49 (power), AF29 IOAF29, AF30 GND@50 (power), AF31 VCC@33 (power), AF32 VCC@216 (power), AF33 GND@228 (power), AF34 NC37, AF35 VCC@177 (power), AF36 GXB_TX_L3P, AF37 GXB_TX_L3N, AF38 GND@229 (power), AF39 GND@230 (power), AG1 GXB_RX_R3N, AG2 GXB_RX_R3P, AG3 GND@322 (power), AG4 GND@321 (power), AG5 NC71, AG6 NC72, AG7 NC66, AG8 NC67, AG9 NC62, AG10 IOAG10, AG12 IOAG12, AG13 IOAG13, AG14 IOAG14, AG15 IOAG15, AG16 IOAG16, AG17 IOAG17, AG18 IOAG18, AG19 IOAG19, AG20 IOAG20, AG21 IOAG21, AG22 IOAG22, AG23 VCC@44 (power), AG24 IOAG24, AG25 IOAG25, AG26 VCC@38 (power), AG27 IOAG27, AG28 IOAG28, AG29 IOAG29, AG30 IOAG30, AG31 NC47, AG32 NC48, AG33 VCC@32 (power), AG34 NC39, AG35 NC40, AG36 GND@226 (power), AG37 GND@227 (power), AG38 GXB_RX_L3P, AG39 GXB_RX_L3N, AH1 GND@324 (power), AH2 GND@323 (power), AH3 GXB_TX_R2N, AH4 GXB_TX_R2P, AH5 NC70, AH6 NC26, AH7 VCC@64 (power), AH8 IOAH8, AH9 IOAH9, AH10 IOAH10, AH11 IOAH11, AH12 IOAH12, AH13 IOAH13, AH14 IOAH14, AH15 VCC@56 (power), AH16 IOAH16, AH17 IOAH17, AH18 IOAH18, AH19 IOAH19, AH20 IOAH20, AH21 VCC@47 (power), AH22 IOAH22, AH23 IOAH23, AH24 IOAH24, AH25 VCC@42 (power), AH26 IOAH26, AH27 IOAH27, AH28 IOAH28, AH29 IOAH29, AH30 IOAH30, AH31 VCC@31 (power), AH32 IOAH32, AH33 IOAH33, AH34 NC24, AH35 NC45, AH36 GXB_TX_L2P, AH37 GXB_TX_L2N, AH38 GND@224 (power), AH39 GND@225 (power), AJ1 GXB_RX_R2N, AJ2 GXB_RX_R2P, AJ3 GND@326 (power), AJ4 GND@325 (power), AJ5 NC65, AJ6 NC25, AJ7 GND@33 (power), AJ8 VCC@63 (power), AJ9 GND@34 (power), AJ10 IOAJ10, AJ11 IOAJ11, AJ12 GND@35 (power), AJ13 IOAJ13, AJ14 IOAJ14, AJ15 GND@36 (power), AJ16 IOAJ16, AJ17 VCC@52 (power), AJ18 GND@37 (power), AJ19 VCC@50 (power), AJ20 IOAJ20, AJ21 GND@38 (power), AJ22 IOAJ22, AJ23 IOAJ23, AJ24 GND@39 (power), AJ25 IOAJ25, AJ26 IOAJ26, AJ27 GND@40 (power), AJ28 VCC@37 (power), AJ29 IOAJ29, AJ30 GND@41 (power), AJ31 IOAJ31, AJ32 IOAJ32, AJ33 GND@42 (power), AJ34 NC23, AJ35 NC44, AJ36 GND@222 (power), AJ37 GND@223 (power), AJ38 GXB_RX_L2P, AJ39 GXB_RX_L2N, AK1 GND@345 (power), AK2 GND@346 (power), AK3 GXB_CMUTX_R1N, AK4 GXB_CMUTX_R1P, AK5 NC63, AK6 IOAK6, AK7 IOAK7, AK8 IOAK8, AK9 IOAK9, AK10 VCC@61 (power), AK11 NC3, AK12 VCC@174 (power), AK13 IOAK13, AK14 IOAK14, AK15 VCC@55 (power), AK16 IOAK16, AK17 IOAK17, AK18 VCC@10 (power), AK19 VCC@8 (power), AK20 VCC@7 (power), AK21 VCC@5 (power), AK22 VCC@46 (power), AK23 IOAK23, AK24 IOAK24, AK25 IOAK25, AK26 IOAK26, AK27 IOAK27, AK28 VCC@173 (power), AK29 IOAK29, AK30 IOAK30, AK31 IOAK31, AK32 IOAK32, AK33 IOAK33, AK34 IOAK34, AK35 NC46, AK36 GXB_CMUTX_L1P, AK37 GXB_CMUTX_L1N, AK38 GND@220 (power), AK39 GND@221 (power), AL1 GXB_CMURX_R1N, AL2 GXB_CMURX_R1P, AL3 GND@343 (power), AL4 GND@344 (power), AL5 NC61, AL6 IOAL6, AL7 VCC@62 (power), AL8 IOAL8, AL9 IOAL9, AL10 IOAL10, AL11 GND@1 (power), AL12 VCC@168 (power), AL13 IOAL13, AL14 IOAL14, AL15 IOAL15, AL16 IOAL16, AL17 IOAL17, AL19 VCC@9 (power), AL20 VCC@6 (power), AL21 IOAL21, AL22 IOAL22, AL23 IOAL23, AL25 IOAL25, AL26 VCC@41 (power), AL27 IOAL27, AL28 VCC@166 (power), AL29 IOAL29, AL30 IOAL30, AL31 IOAL31, AL32 IOAL32, AL33 VCC@30 (power), AL34 IOAL34, AL35 NC49, AL36 GND@218 (power), AL37 GND@219 (power), AL38 GXB_CMURX_L1P, AL39 GXB_CMURX_L1N, AM1 GND@341 (power), AM2 GND@342 (power), AM3 GXB_CMUTX_R0N, AM4 GXB_CMUTX_R0P, AM5 NC59, AM6 IOAM6, AM7 GND@23 (power), AM8 IOAM8, AM9 GND@24 (power), AM10 IOAM10, AM11 NIO_PULLUP, AM12 GND@25 (power), AM13 IOAM13, AM14 IOAM14, AM15 GND@26 (power), AM17 IOAM17, AM18 GND@27 (power), AM19 IOAM19, AM20 VCC@167 (power), AM21 GND@28 (power), AM22 IOAM22, AM23 IOAM23, AM24 GND@29 (power), AM25 IOAM25, AM26 IOAM26, AM27 GND@30 (power), AM28 NC2, AM29 IOAM29, AM30 GND@31 (power), AM31 IOAM31, AM32 VCC@36 (power), AM33 GND@32 (power), AM34 IOAM34, AM35 NC52, AM36 GXB_CMUTX_L0P, AM37 GXB_CMUTX_L0N, AM38 GND@216 (power), AM39 GND@217 (power), AN1 GXB_CMURX_R0N, AN2 GXB_CMURX_R0P, AN3 GND@339 (power), AN4 GND@340 (power), AN5 NC60, AN6 IOAN6, AN7 IOAN7, AN8 VCC@60 (power), AN9 IOAN9, AN10 IOAN10, AN11 ASDO, AN13 IOAN13, AN14 IOAN14, AN15 IOAN15, AN16 IOAN16, AN17 IOAN17, AN18 IOAN18, AN19 IOAN19, AN20 IOAN20, AN21 IOAN21, AN22 IOAN22, AN23 IOAN23, AN24 IOAN24, AN25 IOAN25, AN26 IOAN26, AN27 IOAN27, AN29 NCE, AN30 IOAN30, AN31 IOAN31, AN32 IOAN32, AN33 IOAN33, AN34 IOAN34, AN35 NC50, AN36 GND@214 (power), AN37 GND@215 (power), AN38 GXB_CMURX_L0P, AN39 GXB_CMURX_L0N, AP1 GND@337 (power), AP2 GND@338 (power), AP3 GXB_TX_R1N, AP4 GXB_TX_R1P, AP5 NC58, AP6 IOAP6, AP7 IOAP7, AP8 IOAP8, AP9 IOAP9, AP10 IOAP10, AP11 NCSO, AP12 VCC@54 (power), AP13 IOAP13, AP14 IOAP14, AP15 IOAP15, AP16 IOAP16, AP17 IOAP17, AP18 IOAP18, AP19 IOAP19, AP20 IOAP20, AP21 IOAP21, AP23 IOAP23, AP24 IOAP24, AP25 IOAP25, AP26 IOAP26, AP27 IOAP27, AP28 IOAP28, AP29 PORSEL, AP30 IOAP30, AP31 VCC@35 (power), AP32 IOAP32, AP33 IOAP33, AP34 IOAP34, AP35 NC54, AP36 GXB_TX_L1P, AP37 GXB_TX_L1N, AP38 GND@212 (power), AP39 GND@213 (power), AR1 GXB_RX_R1N, AR2 GXB_RX_R1P, AR3 GND@335 (power), AR4 GND@336 (power), AR5 NC57, AR6 GND@13 (power), AR7 VCC@58 (power), AR8 IOAR8, AR9 GND@14 (power), AR10 VCC@59 (power), AR11 DCLK, AR12 GND@15 (power), AR13 IOAR13, AR14 IOAR14, AR15 GND@16 (power), AR16 IOAR16, AR17 IOAR17, AR18 GND@17 (power), AR19 IOAR19, AR20 IOAR20, AR21 GND@18 (power), AR22 IOAR22, AR23 IOAR23, AR24 GND@19 (power), AR25 IOAR25, AR26 VCC@43 (power), AR27 GND@20 (power), AR28 IOAR28, AR29 VCC@40 (power), AR30 GND@21 (power), AR31 IOAR31, AR32 IOAR32, AR33 GND@22 (power), AR34 IOAR34, AR35 NC55, AR36 GND@210 (power), AR37 GND@211 (power), AR38 GXB_RX_L1P, AR39 GXB_RX_L1N, AT1 GND@333 (power), AT2 GND@334 (power), AT3 GXB_TX_R0N, AT4 GXB_TX_R0P, AT5 NC56, AT6 IOAT6, AT7 IOAT7, AT8 IOAT8, AT9 IOAT9, AT10 IOAT10, AT11 NCEO, AT12 IOAT12, AT13 IOAT13, AT14 IOAT14, AT15 IOAT15, AT16 IOAT16, AT17 IOAT17, AT18 IOAT18, AT19 IOAT19, AT20 IOAT20, AT21 IOAT21, AT22 IOAT22, AT23 IOAT23, AT24 IOAT24, AT25 IOAT25, AT26 IOAT26, AT27 IOAT27, AT28 IOAT28, AT29 IOAT29, AT30 IOAT30, AT31 IOAT31, AT32 IOAT32, AT33 IOAT33, AT34 IOAT34, AT35 VCC@34 (power), AT36 GXB_TX_L0P, AT37 GXB_TX_L0N, AT38 GND@208 (power), AT39 GND@209 (power), AU1 GXB_RX_R0N, AU2 GXB_RX_R0P, AU3 GND@331 (power), AU4 GND@332 (power), AU5 NC7, AU6 IOAU6, AU7 IOAU7, AU8 IOAU8, AU9 IOAU9, AU10 IOAU10, AU11 IOAU11, AU12 IOAU12, AU13 VCC@53 (power), AU14 IOAU14, AU15 IOAU15, AU16 IOAU16, AU17 IOAU17, AU18 IOAU18, AU19 IOAU19, AU20 IOAU20, AU21 VCC@49 (power), AU22 IOAU22, AU23 IOAU23, AU24 IOAU24, AU25 IOAU25, AU26 IOAU26, AU27 IOAU27, AU28 IOAU28, AU29 IOAU29, AU30 VCC@39 (power), AU31 IOAU31, AU32 IOAU32, AU33 IOAU33, AU34 IOAU34, AU35 NC6, AU36 GND@206 (power), AU37 GND@207 (power), AU38 GXB_RX_L0P, AU39 GXB_RX_L0N, AV1 GND@328 (power), AV2 GND@329 (power), AV3 GND@330 (power), AV4 NC8, AV5 IOAV5, AV6 GND@3 (power), AV7 IOAV7, AV8 IOAV8, AV9 GND@4 (power), AV10 IOAV10, AV11 IOAV11, AV12 GND@5 (power), AV13 IOAV13, AV14 IOAV14, AV15 GND@6 (power), AV16 IOAV16, AV17 IOAV17, AV18 GND@7 (power), AV19 IOAV19, AV20 IOAV20, AV21 GND@8 (power), AV22 IOAV22, AV23 IOAV23, AV24 GND@9 (power), AV25 IOAV25, AV26 IOAV26, AV27 GND@10 (power), AV28 IOAV28, AV29 IOAV29, AV30 GND@11 (power), AV31 IOAV31, AV32 IOAV32, AV33 GND@12 (power), AV34 IOAV34, AV35 CONF_DONE, AV36 NC5, AV37 GND@203 (power), AV38 GND@204 (power), AV39 GND@205 (power), AW2 RREF_R0, AW3 GND@327 (power), AW4 IOAW4, AW5 IOAW5, AW6 IOAW6, AW7 IOAW7, AW8 IOAW8, AW9 VCC@57 (power), AW10 IOAW10, AW11 IOAW11, AW12 IOAW12, AW13 IOAW13, AW14 IOAW14, AW15 VCC@51 (power), AW16 IOAW16, AW17 VCC@48 (power), AW18 IOAW18, AW19 IOAW19, AW20 IOAW20, AW21 IOAW21, AW22 IOAW22, AW23 IOAW23, AW24 VCC@45 (power), AW25 IOAW25, AW26 IOAW26, AW27 IOAW27, AW28 IOAW28, AW29 IOAW29, AW30 IOAW30, AW31 IOAW31, AW32 IOAW32, AW33 IOAW33, AW34 IOAW34, AW35 NSTATUS, AW36 NCONFIG, AW37 GND@202 (power), AW38 RREF_L0, B1 GND@263 (power), B2 GND@262 (power), B3 GXB_TX_R11N, B4 GXB_TX_R11P, B5 GND@261 (power), B6 GND@260 (power), B7 GND@259 (power), B8 VCC@74 (power), B9 GND@153 (power), B10 IOB10, B11 IOB11, B12 GND@154 (power), B13 IOB13, B14 IOB14, B15 GND@155 (power), B16 IOB16, B17 IOB17, B18 GND@156 (power), B19 IOB19, B20 IOB20, B21 GND@157 (power), B22 IOB22, B23 IOB23, B24 GND@158 (power), B25 IOB25, B26 IOB26, B27 GND@159 (power), B28 IOB28, B29 IOB29, B30 GND@160 (power), B31 IOB31, B32 IOB32, B33 GND@170 (power), B34 GND@169 (power), B35 GND@168 (power), B36 GXB_TX_L11P, B37 GXB_TX_L11N, B38 GND@167 (power), B39 GND@166 (power), C1 GXB_RX_R11N, C2 GXB_RX_R11P, C3 GND@265 (power), C4 GND@264 (power), C5 NC95, C6 IOC6, C7 IOC7, C8 IOC8, C9 IOC9, C10 IOC10, C11 IOC11, C12 IOC12, C13 IOC13, C14 IOC14, C15 IOC15, C16 IOC16, C17 IOC17, C18 IOC18, C19 IOC19, C20 IOC20, C21 VCC@83 (power), C22 IOC22, C23 VCC@86 (power), C24 IOC24, C25 IOC25, C26 IOC26, C27 IOC27, C28 IOC28, C29 IOC29, C30 IOC30, C31 IOC31, C32 IOC32, C33 IOC33, C34 IOC34, C35 NC12, C36 GND@172 (power), C37 GND@171 (power), C38 GXB_RX_L11P, C39 GXB_RX_L11N, D1 GND@267 (power), D2 GND@266 (power), D3 GXB_TX_R10N, D4 GXB_TX_R10P, D5 NC94, D6 IOD6, D7 IOD7, D8 IOD8, D9 IOD9, D10 IOD10, D11 IOD11, D12 VCC@77 (power), D13 IOD13, D14 IOD14, D15 IOD15, D16 IOD16, D17 IOD17, D18 IOD18, D19 IOD19, D20 IOD20, D21 IOD21, D22 IOD22, D23 IOD23, D24 IOD24, D25 IOD25, D26 IOD26, D27 IOD27, D28 IOD28, D29 IOD29, D30 VCC@91 (power), D31 IOD31, D32 VCC@25 (power), D33 IOD33, D34 IOD34, D35 NC13, D36 GXB_TX_L10P, D37 GXB_TX_L10N, D38 GND@174 (power), D39 GND@173 (power), E1 GXB_RX_R10N, E2 GXB_RX_R10P, E3 GND@269 (power), E4 GND@268 (power), E5 VCC@72 (power), E6 GND@143 (power), E7 IOE7, E8 VCC@73 (power), E9 GND@144 (power), E10 IOE10, E11 TEMPDIODEN, E12 GND@145 (power), E13 IOE13, E14 IOE14, E15 GND@146 (power), E16 IOE16, E17 IOE17, E18 GND@147 (power), E19 VCC@82 (power), E21 GND@148 (power), E22 IOE22, E23 IOE23, E24 GND@149 (power), E25 IOE25, E26 VCC@88 (power), E27 GND@150 (power), E28 IOE28, E29 IOE29, E30 GND@151 (power), E31 IOE31, E32 IOE32, E33 GND@152 (power), E34 IOE34, E35 VCC@24 (power), E36 GND@176 (power), E37 GND@175 (power), E38 GXB_RX_L10P, E39 GXB_RX_L10N, F1 GND@271 (power), F2 GND@270 (power), F3 GXB_CMUTX_R5N, F4 GXB_CMUTX_R5P, F5 NC93, F6 IOF6, F7 IOF7, F8 IOF8, F9 IOF9, F10 IOF10, F11 NC4, F12 IOF12, F13 IOF13, F14 IOF14, F15 IOF15, F16 IOF16, F17 IOF17, F18 IOF18, F19 IOF19, F20 IOF20, F21 IOF21, F22 VCC@85 (power), F23 IOF23, F24 IOF24, F25 IOF25, F26 IOF26, F27 IOF27, F28 IOF28, F30 TDO (out), F31 IOF31, F32 IOF32, F33 IOF33, F34 IOF34, F35 NC29, F36 GXB_CMUTX_L5P, F37 GXB_CMUTX_L5N, F38 GND@178 (power), F39 GND@177 (power), G1 GXB_CMURX_R5N, G2 GXB_CMURX_R5P, G3 GND@273 (power), G4 GND@272 (power), G5 NC92, G6 IOG6, G7 IOG7, G8 IOG8, G9 IOG9, G10 IOG10, G11 VCC@171 (power), G13 IOG13, G14 IOG14, G15 IOG15, G16 IOG16, G17 IOG17, G18 IOG18, G19 IOG19, G20 IOG20, G21 IOG21, G22 IOG22, G23 IOG23, G24 IOG24, G25 IOG25, G26 IOG26, G27 IOG27, G28 IOG28, G29 IOG29, G30 TCK, G31 IOG31, G32 VCC@22 (power), G33 IOG33, G34 VCC@23 (power), G35 NC30, G36 GND@180 (power), G37 GND@179 (power), G38 GXB_CMURX_L5P, G39 GXB_CMURX_L5N, H1 GND@275 (power), H2 GND@274 (power), H3 GXB_CMUTX_R4N, H4 GXB_CMUTX_R4P, H5 VCC@69 (power), H6 GND@133 (power), H7 IOH7, H8 VCC@71 (power), H9 GND@134 (power), H10 IOH10, H11 MSEL1, H12 GND@135 (power), H13 IOH13, H14 IOH14, H15 GND@136 (power), H17 IOH17, H18 GND@137 (power), H19 IOH19, H20 VCC@172 (power), H21 GND@138 (power), H22 IOH22, H23 IOH23, H24 GND@139 (power), H26 IOH26, H27 GND@140 (power), H28 IOH28, H29 VCC@163 (power), H30 GND@141 (power), H31 IOH31, H32 IOH32, H33 GND@142 (power), H34 IOH34, H35 NC31, H36 GXB_CMUTX_L4P, H37 GXB_CMUTX_L4N, H38 GND@182 (power), H39 GND@181 (power), J1 GXB_CMURX_R4N, J2 GXB_CMURX_R4P, J3 GND@277 (power), J4 GND@276 (power), J5 NC91, J6 IOJ6, J7 IOJ7, J8 IOJ8, J9 IOJ9, J10 IOJ10, J11 MSEL0, J12 IOJ12, J13 IOJ13, J14 VCC@76 (power), J15 IOJ15, J16 IOJ16, J17 IOJ17, J18 IOJ18, J19 VCC@16 (power), J20 VCC@19 (power), J22 IOJ22, J23 IOJ23, J24 IOJ24, J25 IOJ25, J26 IOJ26, J27 IOJ27, J28 VCC@90 (power), J29 TDI, J30 IOJ30, J31 VCC@21 (power), J32 IOJ32, J33 IOJ33, J34 NC21, J35 NC32, J36 GND@184 (power), J37 GND@183 (power), J38 GXB_CMURX_L4P, J39 GXB_CMURX_L4N, K1 GND@279 (power), K2 GND@278 (power), K3 GXB_TX_R9N, K4 GXB_TX_R9P, K5 NC90, K6 IOK6, K7 IOK7, K8 IOK8, K9 IOK9, K10 IOK10, K11 VCC@175 (power), K12 IOK12, K13 IOK13, K14 IOK14, K15 IOK15, K16 IOK16, K17 IOK17, K18 VCC@15 (power), K19 VCC@17 (power), K20 VCC@18 (power), K21 VCC@20 (power), K22 IOK22, K23 IOK23, K24 IOK24, K25 VCC@87 (power), K26 IOK26, K27 IOK27, K28 IOK28, K29 IOK29, K30 IOK30, K31 IOK31, K32 IOK32, K33 VCC@29 (power), K34 NC22, K35 NC33, K36 GXB_TX_L9P, K37 GXB_TX_L9N, K38 GND@186 (power), K39 GND@185 (power), L1 GXB_RX_R9N, L2 GXB_RX_R9P, L3 GND@281 (power), L4 GND@280 (power), L5 NC87, L6 GND@123 (power), L7 IOL7, L8 IOL8, L9 GND@124 (power), L10 IOL10, L11 IOL11, L12 GND@125 (power), L13 IOL13, L14 IOL14, L15 GND@126 (power), L16 IOL16, L17 VCC@79 (power), L18 GND@127 (power), L19 IOL19, L20 IOL20, L21 GND@128 (power), L22 VCC@84 (power), L23 IOL23, L24 GND@129 (power), L25 IOL25, L26 IOL26, L27 GND@130 (power), L28 NC1, L29 IOL29, L30 GND@131 (power), L31 IOL31, L32 IOL32, L33 GND@132 (power), L34 IOL34, L35 NC14, L36 GND@188 (power), L37 GND@187 (power), L38 GXB_RX_L9P, L39 GXB_RX_L9N, M1 GND@283 (power), M2 GND@282 (power), M3 GXB_TX_R8N, M4 GXB_TX_R8P, M5 VCC@178 (power), M6 IOM6, M7 IOM7, M8 IOM8, M9 VCC@70 (power), M10 IOM10, M11 IOM11, M12 IOM12, M13 IOM13, M14 IOM14, M15 VCC@75 (power), M16 IOM16, M17 IOM17, M18 VCC@81 (power), M19 IOM19, M20 IOM20, M21 IOM21, M22 IOM22, M23 IOM23, M24 IOM24, M25 IOM25, M26 VCC@89 (power), M27 IOM27, M28 IOM28, M29 IOM29, M30 IOM30, M31 IOM31, M32 IOM32, M33 IOM33, M34 IOM34, M35 VCC@176 (power), M36 GXB_TX_L8P, M37 GXB_TX_L8N, M38 GND@190 (power), M39 GND@189 (power), N1 GXB_RX_R8N, N2 GXB_RX_R8P, N3 GND@285 (power), N4 GND@284 (power), N5 NC86, N6 NC28, N7 ION7, N8 ION8, N9 ION9, N10 ION10, N11 ION11, N12 ION12, N13 ION13, N14 ION14, N15 ION15, N16 ION16, N17 ION17, N18 GND@121 (power), N19 ION19, N20 ION20, N21 ION21, N22 ION22, N23 ION23, N24 GND@122 (power), N25 ION25, N26 ION26, N27 TMS, N28 ION28, N29 ION29, N30 ION30, N31 ION31, N32 VCC@28 (power), N33 ION33, N34 ION34, N35 ION35, N36 GND@192 (power), N37 GND@191 (power), N38 GXB_RX_L8P, N39 GXB_RX_L8N, P1 GND@287 (power), P2 GND@286 (power), P3 GXB_TX_R7N, P4 GXB_TX_R7P, P5 VCC@207 (power), P6 NC27, P7 GND@113 (power), P8 IOP8, P9 GND@114 (power), P10 VCC@68 (power), P12 GND@115 (power), P13 IOP13, P14 IOP14, P15 GND@116 (power), P16 IOP16, P17 IOP17, P18 IOP18, P19 IOP19, P20 IOP20, P21 GND@117 (power), P22 IOP22, P23 IOP23, P24 IOP24, P25 IOP25, P26 IOP26, P27 GND@118 (power), P29 IOP29, P30 GND@119 (power), P31 IOP31, P32 IOP32, P33 GND@120 (power), P34 IOP34, P35 VCC@204 (power), P36 GXB_TX_L7P, P37 GXB_TX_L7N, P38 GND@194 (power), P39 GND@193 (power), R1 GXB_RX_R7N, R2 GXB_RX_R7P, R3 GND@289 (power), R4 GND@288 (power), R5 NC83, R6 NC82, R7 NC85, R8 NC89, R9 NC88, R10 IOR10, R11 IOR11, R12 IOR12, R13 IOR13, R14 IOR14, R15 VCC@157 (power), R16 NC10, R17 VCC@158 (power), R18 IOR18, R19 VCC@159 (power), R20 IOR20, R21 VCC@160 (power), R22 IOR22, R23 VCC@161 (power), R24 IOR24, R25 VCC@162 (power), R26 NC11, R27 IOR27, R28 IOR28, R29 IOR29, R30 IOR30, R31 IOR31, R32 NC36, R33 NC35, R34 IOR34, R35 IOR35, R36 GND@196 (power), R37 GND@195 (power), R38 GXB_RX_L7P, R39 GXB_RX_L7N, T1 GND@293 (power), T2 GND@292 (power), T3 GXB_TX_R6N, T4 GXB_TX_R6P, T5 VCC@201 (power), T6 GND@291 (power), T7 VCC@196 (power), T8 GND@290 (power), T9 NC81, T10 IOT10, T11 VCC@67 (power), T12 IOT12, T13 IOT13, T14 VCC@136 (power), T15 GND@107 (power), T16 VCC@137 (power), T17 GND@108 (power), T18 VCC@138 (power), T19 GND@109 (power), T20 VCC@139 (power), T21 GND@110 (power), T22 VCC@140 (power), T23 GND@111 (power), T24 VCC@141 (power), T25 GND@112 (power), T26 VCC@142 (power), T27 IOT27, T28 IOT28, T29 VCC@27 (power), T30 IOT30, T31 NC34, T32 GND@200 (power), T33 VCC@190 (power), T34 GND@199 (power), T35 VCC@198 (power), T36 GXB_TX_L6P, T37 GXB_TX_L6N, T38 GND@198 (power), T39 GND@197 (power), U1 GXB_RX_R6N, U2 GXB_RX_R6P, U3 GND@295 (power), U4 GND@294 (power), U5 NC80, U6 VCC@185 (power), U7 VCC@197 (power), U8 VCC@227 (power), U9 GND@96 (power), U10 IOU10, U12 GND@97 (power), U13 VCC@156 (power), U14 GND@98 (power), U15 VCC@130 (power), U16 GND@99 (power), U17 VCC@131 (power), U18 GND@100 (power), U19 VCC@132 (power), U20 GND@101 (power), U21 VCC@133 (power), U22 GND@102 (power), U23 VCC@134 (power), U24 GND@103 (power), U25 VCC@135 (power), U26 GND@104 (power), U27 VCC@143 (power), U28 GND@105 (power), U30 GND@106 (power), U31 NC16, U32 VCC@221 (power), U33 VCC@191 (power), U34 VCC@182 (power), U35 IOU35, U36 GND@253 (power), U37 GND@201 (power), U38 GXB_RX_L6P, U39 GXB_RX_L6N, V1 GND@298 (power), V2 GND@297 (power), V3 GXB_CMUTX_R3N, V4 GXB_CMUTX_R3P, V5 VCC@208 (power), V6 NC79, V7 GND@296 (power), V8 VCC@226 (power), V9 NC84, V10 IOV10, V11 IOV11, V12 IOV12, V13 VCC@66 (power), V14 VCC@123 (power), V15 GND@90 (power), V16 VCC@124 (power), V17 GND@91 (power), V18 VCC@125 (power), V19 GND@92 (power), V20 VCC@126 (power), V21 GND@93 (power), V22 VCC@127 (power), V23 GND@94 (power), V24 VCC@128 (power), V25 GND@95 (power), V26 VCC@129 (power), V27 IOV27, V28 IOV28, V29 IOV29, V30 IOV30, V31 NC15, V32 VCC@220 (power), V33 GND@250 (power), V34 IOV34, V35 VCC@205 (power), V36 GXB_CMUTX_L3P, V37 GXB_CMUTX_L3N, V38 GND@251 (power), V39 GND@252 (power), W1 GXB_CMURX_R3N, W2 GXB_CMURX_R3P, W3 GND@300 (power), W4 GND@299 (power), W5 NC76, W6 NC75, W7 NC78, W8 NC77, W9 VCC@213 (power), W10 GND@83 (power), W11 IOW11, W12 IOW12, W13 VCC@155 (power), W14 GND@84 (power), W15 VCC@117 (power), W16 GND@85 (power), W17 VCC@118 (power), W18 GND@86 (power), W19 VCC@119 (power), W20 GND@87 (power), W21 VCC@120 (power), W22 GND@88 (power), W23 VCC@121 (power), W24 GND@89 (power), W25 VCC@122 (power), W26 IOW26, W27 VCC@144 (power), W28 IOW28, W29 IOW29, W30 IOW30, W31 VCC@210 (power), W32 NC18, W33 NC17, W34 NC20, W35 NC19, W36 GND@248 (power), W37 GND@249 (power), W38 GXB_CMURX_L3P, W39 GXB_CMURX_L3N, Y1 GND@304 (power), Y2 GND@303 (power), Y3 GXB_CMUTX_R2N, Y4 GXB_CMUTX_R2P, Y5 VCC@202 (power), Y6 GND@302 (power), Y7 VCC@194 (power), Y8 GND@301 (power), Y9 VCC@214 (power), Y10 VCC@14 (power), Y11 VCC@13 (power), Y12 GND@75 (power), Y13 VCC@169 (power), Y14 VCC@112 (power), Y15 GND@76 (power), Y16 VCC@113 (power), Y17 GND@77 (power), Y18 VCC@114 (power), Y19 GND@78 (power), Y20 VCC@93 (power), Y21 GND@2 (power), Y22 VCC@115 (power), Y23 GND@79 (power), Y24 VCC@116 (power), Y25 GND@80 (power), Y26 VCC@145 (power), Y27 GND@81 (power), Y28 VCC@2 (power), Y29 VCC@1 (power), Y30 GND@82 (power), Y31 VCC@211 (power), Y32 GND@244 (power), Y33 VCC@188 (power), Y34 GND@245 (power), Y35 VCC@199 (power), Y36 GXB_CMUTX_L2P, Y37 GXB_CMUTX_L2N, Y38 GND@246 (power), Y39 GND@247 (power)